# Altium schematic symbol library B2B-XH-A(LF)(SN).SchLib: 1 symbol
Pins are listed as number, name and electrical type; pins without a type are passive.

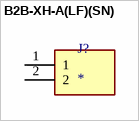
[diagram p0: symbol B2B-XH-A(LF)(SN)]

## B2B-XH-A(LF)(SN)
designator J?
XH Series 2 Position 2.5 mm Pitch Through Hole Top Entry Shrouded Header; MP: B2B-XH-A(LF)(SN); MF: {'manufacturer': u'JST Sales America Inc.'}; Value: *; Package: None; Price: None; Availability: Unavailable
footprint JST_B2B-XH-A(LF)(SN)
pins: 1, 2